# EAGLE library part ADE-1L+ (library FM_transmitter)
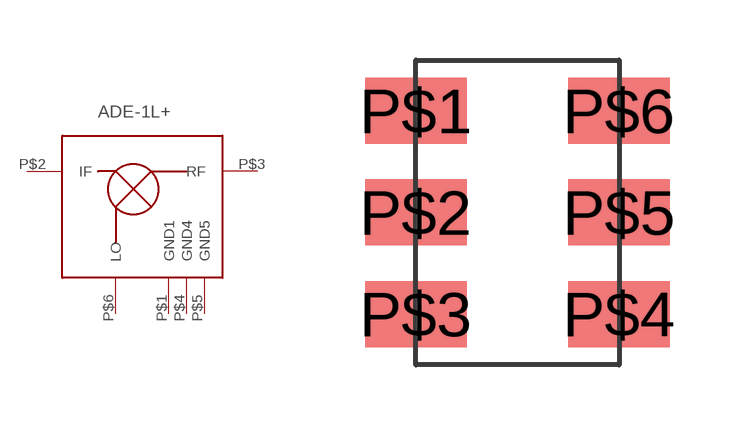
[diagram p5: symbol with the pads of ADE-1L+; footprint ADE-1L+]

Designator prefix -

## ADE-1L+  [ADE-1L+]
P$1  GND1
P$2  IF
P$3  RF
P$4  GND4
P$5  GND5
P$6  LO

## Footprint ADE-1L+ (pad centres in mm)
smd 2.54 x 1.65: P$1 -2.54,2.54; P$2 -2.54,0; P$3 -2.54,-2.54; P$4 2.54,-2.54; P$5 2.54,0; P$6 2.54,2.54